# Altium schematic symbol library 564GG1V OSM.Schlib: 1 symbol
Pins are listed as number, name and electrical type; pins without a type are passive.

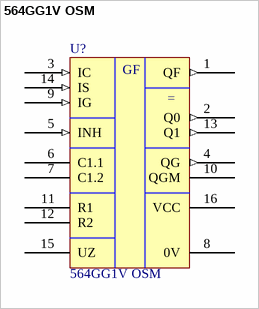
[diagram p0: symbol 564GG1V OSM]

## 564GG1V OSM
designator U?
VCO and PLL
footprint 402.16-33
pins: 1 QF (out), 2 Q0 (out), 3 IC (in), 4 QG (out), 5 INH (in), 6 C1.1, 7 C1.2, 8 0V (power), 9 IG (in), 10 QGM (oe), 11 R1, 12 R2, 13 Q1 (out), 14 IS (in), 15 UZ, 16 VCC (power)
text: GF